# EAGLE library part TB001-500-12BE (library TB001-500-12BE)
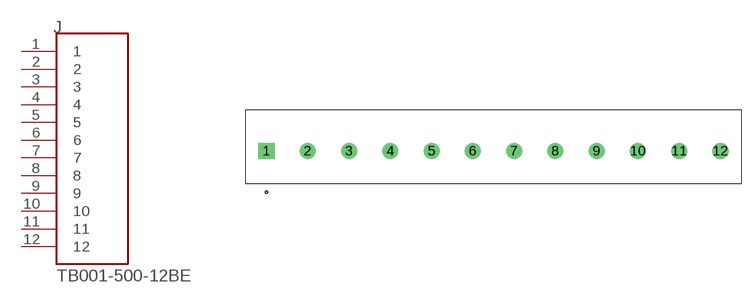
[diagram p0: symbol with the pads of CUI_TB001-500-12BE; footprint CUI_TB001-500-12BE]

Designator prefix J

## TB001-500-12BE (MANUFACTURER: CUI; STANDARD: Manufacturer Recommendations)  [CUI_TB001-500-12BE]
1  1  pas
2  2  pas
3  3  pas
4  4  pas
5  5  pas
6  6  pas
7  7  pas
8  8  pas
9  9  pas
10  10  pas
11  11  pas
12  12  pas

## Footprint CUI_TB001-500-12BE (pad centres in mm)
drill 1.3 square: 1 0,0
drill 1.3: 2 5,0; 3 10,0; 4 15,0; 5 20,0; 6 25,0; 7 30,0; 8 35,0; 9 40,0; 10 45,0; 11 50,0; 12 55,0